# EAGLE library part CARAMBOLA (library BaseApp)
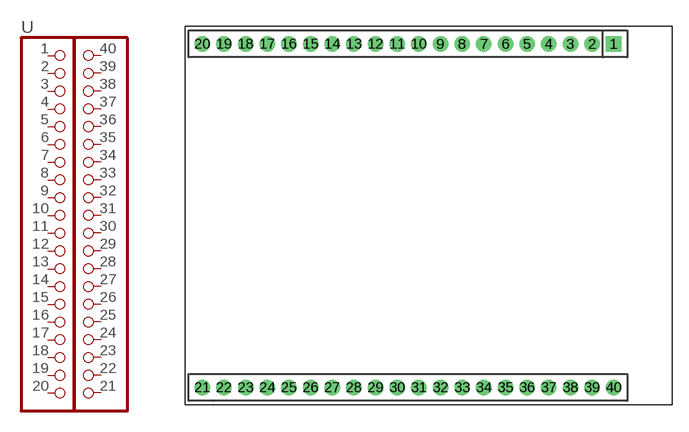
[diagram p41: symbol with the pads of CARAMBOLA; footprint CARAMBOLA]

Designator prefix -

## CARAMBOLA  [CARAMBOLA]
1  GND  pas
2  ETH0_RD+  pas
3  ETH0_RD-  pas
4  ETH0_TD+  pas
5  ETH0_TD-  pas
6  GND  pas
7  ETH1_RD+  pas
8  ETH1_RD-  pas
9  ETH1_TD+  pas
10  ETH1_TD-  pas
11  2VD  pas
12  GND  pas
13  SPI_EN  pas
14  SPI_CLK  pas
15  SPI_DOUT  pas
16  SPI_DIN  pas
17  RESET  pas
18  WLAN_LED  pas
19  ETH1_LED  pas
20  ETH0_LED  pas
21  5V  pas
22  3.3V  pas
23  3.3V  pas
24  GND  pas
25  RIN  pas
26  DCD  pas
27  DTR  pas
28  DSR  pas
29  RTS  pas
30  CTS  pas
31  TXD  pas
32  RXD  pas
33  I2C_SCLK  pas
34  I2C_SD  pas
35  TXD2  pas
36  RXD2  pas
37  GND  pas
38  UDP  pas
39  UDM  pas
40  UPHY  pas

## Footprint CARAMBOLA (pad centres in mm)
drill 0.914 square: 1 17.095,15.875
drill 0.914: 2 15.095,15.875; 3 13.095,15.875; 4 11.095,15.875; 5 9.095,15.875; 6 7.095,15.875; 7 5.095,15.875; 8 3.095,15.875; 9 1.095,15.875; 10 -0.905,15.875; 11 -2.905,15.875; 12 -4.905,15.875; 13 -6.905,15.875; 14 -8.905,15.875; 15 -10.905,15.875; 16 -12.905,15.875; 17 -14.905,15.875; 18 -16.905,15.875; 19 -18.905,15.875; 20 -20.905,15.875; 21 -20.905,-15.875; 22 -18.905,-15.875; 23 -16.905,-15.875; 24 -14.905,-15.875; 25 -12.905,-15.875; 26 -10.905,-15.875; 27 -8.905,-15.875; 28 -6.905,-15.875; 29 -4.905,-15.875; 30 -2.905,-15.875; 31 -0.905,-15.875; 32 1.095,-15.875; 33 3.095,-15.875; 34 5.095,-15.875; 35 7.095,-15.875; 36 9.095,-15.875; 37 11.095,-15.875; 38 13.095,-15.875; 39 15.095,-15.875; 40 17.095,-15.875